# EAGLE library part LEVEL_CONVERSION_MODULE (library various)
74LVC8T245 8-CH TTL COMS Level Conversion Module
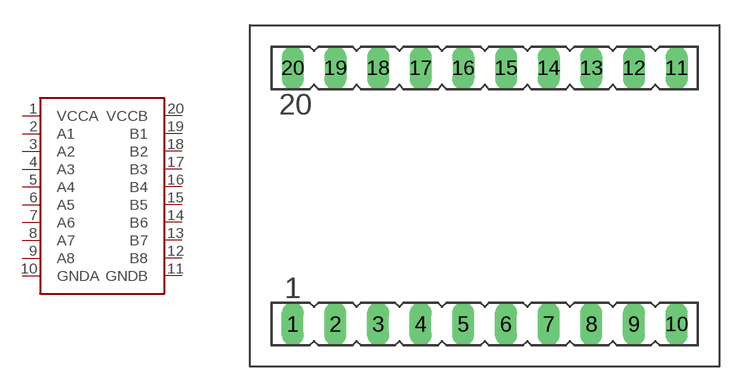
[diagram p1: symbol with the pads of LEVEL_CONVERSION_MODULE; footprint LEVEL_CONVERSION_MODULE]

Designator prefix -

## LEVEL_CONVERSION_MODULE  [LEVEL_CONVERSION_MODULE]
1  VCCA  pwr
2  A1
3  A2
4  A3
5  A4
6  A5
7  A6
8  A7
9  A8
10  GNDA  pwr
11  GNDB  pwr
12  B8
13  B7
14  B6
15  B5
16  B4
17  B3
18  B2
19  B1
20  VCCB  pwr

## Footprint LEVEL_CONVERSION_MODULE (pad centres in mm)
FEMALE HEADER
drill 0.813 long: 1 -11.43,-6.35; 2 -8.89,-6.35; 3 -6.35,-6.35; 4 -3.81,-6.35; 5 -1.27,-6.35; 6 1.27,-6.35; 7 3.81,-6.35; 8 6.35,-6.35; 9 8.89,-6.35; 10 11.43,-6.35; 11 11.43,8.89; 12 8.89,8.89; 13 6.35,8.89; 14 3.81,8.89; 15 1.27,8.89; 16 -1.27,8.89; 17 -3.81,8.89; 18 -6.35,8.89; 19 -8.89,8.89; 20 -11.43,8.89